# Altium integrated library ON Semi Zener Diodes.IntLib: 1366 symbols (part 2 of 29)
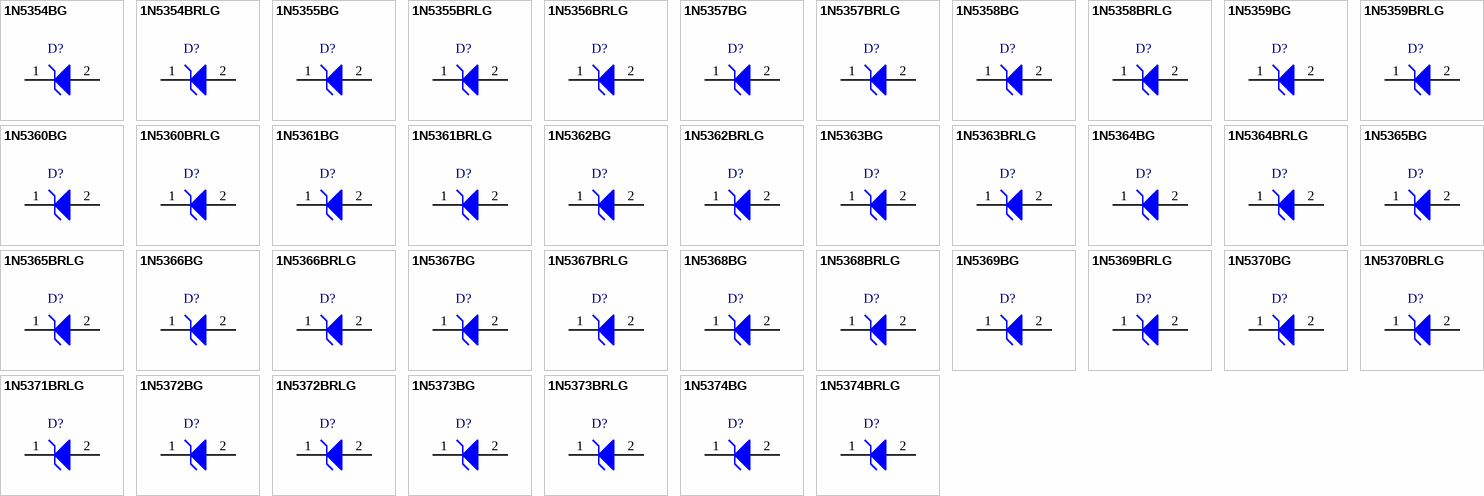
[diagram p45: symbols 1N5354BG to 1N5374BRLG]

## 1N5357BG
designator D?
5 W Zener Voltage Regulator, 2-Pin Surmetic(TM) 40, Pb-Free, Bulk Box; Manufacturer: On Semiconductor; PartNumber: 1N5357BG; P Max (W): 5; VZ Typ (V): 20; DatasheetVersion: Rev. 14; PackageVersion: Rev. O, 09/2005; PackageReference: SURMETIC40-2-017AA-01; PackageDescription: 2-Pin, Axial Lead, Diameter 3.49 mm; Supplier 1: Digi-Key; Supplier Part Number 1: 1N5357BGOS-ND; Supplier 2: Farnell; Supplier Part Number 2: 9558152; Supplier 3: Newark; Supplier Part Number 3: 42K2888; Supplier 4: Mouser; Supplier Part Number 4: 863-1N5357BG; Packing: Bulk Box; RoHS: Pb-Free; Mounting Technology: Through Hole; ComponentLink1Description: Manufacturer URL; ComponentLink1URL: http://www.onsemi.com/; ComponentLink2Description: Datasheet; ComponentLink2URL: http://www.onsemi.cn/pub_link/Collateral/1N5333B-D.PDF; ComponentLink3Description: Package Specification; ComponentLink3URL: http://www.onsemi.cn/pub_link/Collateral/017AA.PDF
footprint ONSC-SURMETIC40-2-017AA-01 (AXIAL, 2-Leads, Diameter 3.49mm)
pins: 1 K, 2 A

## 1N5357BRLG
designator D?
5 W Zener Voltage Regulator, 2-Pin Surmetic(TM) 40, Pb-Free, Tape and Reel; Manufacturer: On Semiconductor; PartNumber: 1N5357BRLG; P Max (W): 5; VZ Typ (V): 20; DatasheetVersion: Rev. 14; PackageVersion: Rev. O, 09/2005; PackageReference: SURMETIC40-2-017AA-01; PackageDescription: 2-Pin, Axial Lead, Diameter 3.49 mm; Supplier 1: Digi-Key; Supplier Part Number 1: 1N5357BRLGOSTR-ND; Supplier 2: Digi-Key; Supplier Part Number 2: 1N5357BRLGOSCT-ND; Supplier 3: Farnell; Supplier Part Number 3: 2317474; Supplier 4: Farnell; Supplier Part Number 4: 2369372; Supplier 5: Newark; Supplier Part Number 5: 10N9630; Supplier 6: Newark; Supplier Part Number 6: 42K2889; Supplier 7: Newark; Supplier Part Number 7: 90W9713; Supplier 8: Mouser; Supplier Part Number 8: 863-1N5357BRLG; Packing: Tape and Reel; RoHS: Pb-Free; Mounting Technology: Through Hole; ComponentLink1Description: Manufacturer URL; ComponentLink1URL: http://www.onsemi.com/; ComponentLink2Description: Datasheet; ComponentLink2URL: http://www.onsemi.cn/pub_link/Collateral/1N5333B-D.PDF; ComponentLink3Description: Package Specification; ComponentLink3URL: http://www.onsemi.cn/pub_link/Collateral/017AA.PDF
footprint ONSC-SURMETIC40-2-017AA-01 (AXIAL, 2-Leads, Diameter 3.49mm)
pins: 1 K, 2 A

## 1N5358BG
designator D?
5 W Zener Voltage Regulator, 2-Pin Surmetic(TM) 40, Pb-Free, Bulk Box; Manufacturer: On Semiconductor; PartNumber: 1N5358BG; P Max (W): 5; VZ Typ (V): 22; DatasheetVersion: Rev. 14; PackageVersion: Rev. O, 09/2005; PackageReference: SURMETIC40-2-017AA-01; PackageDescription: 2-Pin, Axial Lead, Diameter 3.49 mm; Supplier 1: Digi-Key; Supplier Part Number 1: 1N5358BGOS-ND; Supplier 2: Farnell; Supplier Part Number 2: 9558160; Supplier 3: Newark; Supplier Part Number 3: 42K2890; Supplier 4: Mouser; Supplier Part Number 4: 863-1N5358BG; Packing: Bulk Box; RoHS: Pb-Free; Mounting Technology: Through Hole; ComponentLink1Description: Manufacturer URL; ComponentLink1URL: http://www.onsemi.com/; ComponentLink2Description: Datasheet; ComponentLink2URL: http://www.onsemi.cn/pub_link/Collateral/1N5333B-D.PDF; ComponentLink3Description: Package Specification; ComponentLink3URL: http://www.onsemi.cn/pub_link/Collateral/017AA.PDF
footprint ONSC-SURMETIC40-2-017AA-01 (AXIAL, 2-Leads, Diameter 3.49mm)
pins: 1 K, 2 A

## 1N5358BRLG
designator D?
5 W Zener Voltage Regulator, 2-Pin Surmetic(TM) 40, Pb-Free, Tape and Reel; Manufacturer: On Semiconductor; PartNumber: 1N5358BRLG; P Max (W): 5; VZ Typ (V): 22; DatasheetVersion: Rev. 14; PackageVersion: Rev. O, 09/2005; PackageReference: SURMETIC40-2-017AA-01; PackageDescription: 2-Pin, Axial Lead, Diameter 3.49 mm; Supplier 1: Digi-Key; Supplier Part Number 1: 1N5358BRLGOSTR-ND; Supplier 2: Digi-Key; Supplier Part Number 2: 1N5358BRLGOSCT-ND; Supplier 3: Newark; Supplier Part Number 3: 10N9631; Supplier 4: Mouser; Supplier Part Number 4: 863-1N5358BRLG; Packing: Tape and Reel; RoHS: Pb-Free; Mounting Technology: Through Hole; ComponentLink1Description: Manufacturer URL; ComponentLink1URL: http://www.onsemi.com/; ComponentLink2Description: Datasheet; ComponentLink2URL: http://www.onsemi.cn/pub_link/Collateral/1N5333B-D.PDF; ComponentLink3Description: Package Specification; ComponentLink3URL: http://www.onsemi.cn/pub_link/Collateral/017AA.PDF
footprint ONSC-SURMETIC40-2-017AA-01 (AXIAL, 2-Leads, Diameter 3.49mm)
pins: 1 K, 2 A

## 1N5359BG
designator D?
5 W Zener Voltage Regulator, 2-Pin Surmetic(TM) 40, Pb-Free, Bulk Box; Manufacturer: On Semiconductor; PartNumber: 1N5359BG; P Max (W): 5; VZ Typ (V): 24; DatasheetVersion: Rev. 14; PackageVersion: Rev. O, 09/2005; PackageReference: SURMETIC40-2-017AA-01; PackageDescription: 2-Pin, Axial Lead, Diameter 3.49 mm; Supplier 1: Digi-Key; Supplier Part Number 1: 1N5359BGOS-ND; Supplier 2: Farnell; Supplier Part Number 2: 9558179; Supplier 3: Newark; Supplier Part Number 3: 42K2892; Supplier 4: Mouser; Supplier Part Number 4: 863-1N5359BG; Packing: Bulk Box; RoHS: Pb-Free; Mounting Technology: Through Hole; ComponentLink1Description: Manufacturer URL; ComponentLink1URL: http://www.onsemi.com/; ComponentLink2Description: Datasheet; ComponentLink2URL: http://www.onsemi.cn/pub_link/Collateral/1N5333B-D.PDF; ComponentLink3Description: Package Specification; ComponentLink3URL: http://www.onsemi.cn/pub_link/Collateral/017AA.PDF
footprint ONSC-SURMETIC40-2-017AA-01 (AXIAL, 2-Leads, Diameter 3.49mm)
pins: 1 K, 2 A

## 1N5359BRLG
designator D?
5 W Zener Voltage Regulator, 2-Pin Surmetic(TM) 40, Pb-Free, Tape and Reel; Manufacturer: On Semiconductor; PartNumber: 1N5359BRLG; P Max (W): 5; VZ Typ (V): 24; DatasheetVersion: Rev. 14; PackageVersion: Rev. O, 09/2005; PackageReference: SURMETIC40-2-017AA-01; PackageDescription: 2-Pin, Axial Lead, Diameter 3.49 mm; Supplier 1: Digi-Key; Supplier Part Number 1: 1N5359BRLGOSTR-ND; Supplier 2: Digi-Key; Supplier Part Number 2: 1N5359BRLGOSCT-ND; Supplier 3: Farnell; Supplier Part Number 3: 1705006; Supplier 4: Newark; Supplier Part Number 4: 42K2893; Supplier 5: Mouser; Supplier Part Number 5: 863-1N5359BRLG; Packing: Tape and Reel; RoHS: Pb-Free; Mounting Technology: Through Hole; ComponentLink1Description: Manufacturer URL; ComponentLink1URL: http://www.onsemi.com/; ComponentLink2Description: Datasheet; ComponentLink2URL: http://www.onsemi.cn/pub_link/Collateral/1N5333B-D.PDF; ComponentLink3Description: Package Specification; ComponentLink3URL: http://www.onsemi.cn/pub_link/Collateral/017AA.PDF
footprint ONSC-SURMETIC40-2-017AA-01 (AXIAL, 2-Leads, Diameter 3.49mm)
pins: 1 K, 2 A

## 1N5360BG
designator D?
5 W Zener Voltage Regulator, 2-Pin Surmetic(TM) 40, Pb-Free, Bulk Box; Manufacturer: On Semiconductor; PartNumber: 1N5360BG; P Max (W): 5; VZ Typ (V): 25; DatasheetVersion: Rev. 14; PackageVersion: Rev. O, 09/2005; PackageReference: SURMETIC40-2-017AA-01; PackageDescription: 2-Pin, Axial Lead, Diameter 3.49 mm; Supplier 1: Digi-Key; Supplier Part Number 1: 1N5360BGOS-ND; Supplier 2: Farnell; Supplier Part Number 2: 9558187; Supplier 3: Newark; Supplier Part Number 3: 42K2894; Supplier 4: Mouser; Supplier Part Number 4: 863-1N5360BG; Packing: Bulk Box; RoHS: Pb-Free; Mounting Technology: Through Hole; ComponentLink1Description: Manufacturer URL; ComponentLink1URL: http://www.onsemi.com/; ComponentLink2Description: Datasheet; ComponentLink2URL: http://www.onsemi.cn/pub_link/Collateral/1N5333B-D.PDF; ComponentLink3Description: Package Specification; ComponentLink3URL: http://www.onsemi.cn/pub_link/Collateral/017AA.PDF
footprint ONSC-SURMETIC40-2-017AA-01 (AXIAL, 2-Leads, Diameter 3.49mm)
pins: 1 K, 2 A

## 1N5360BRLG
designator D?
5 W Zener Voltage Regulator, 2-Pin Surmetic(TM) 40, Pb-Free, Tape and Reel; Manufacturer: On Semiconductor; PartNumber: 1N5360BRLG; P Max (W): 5; VZ Typ (V): 25; DatasheetVersion: Rev. 14; PackageVersion: Rev. O, 09/2005; PackageReference: SURMETIC40-2-017AA-01; PackageDescription: 2-Pin, Axial Lead, Diameter 3.49 mm; Supplier 1: Digi-Key; Supplier Part Number 1: 1N5360BRLGOSTR-ND; Supplier 2: Digi-Key; Supplier Part Number 2: 1N5360BRLGOSCT-ND; Supplier 3: Newark; Supplier Part Number 3: 10N9632; Supplier 4: Mouser; Supplier Part Number 4: 863-1N5360BRLG; Packing: Tape and Reel; RoHS: Pb-Free; Mounting Technology: Through Hole; ComponentLink1Description: Manufacturer URL; ComponentLink1URL: http://www.onsemi.com/; ComponentLink2Description: Datasheet; ComponentLink2URL: http://www.onsemi.cn/pub_link/Collateral/1N5333B-D.PDF; ComponentLink3Description: Package Specification; ComponentLink3URL: http://www.onsemi.cn/pub_link/Collateral/017AA.PDF
footprint ONSC-SURMETIC40-2-017AA-01 (AXIAL, 2-Leads, Diameter 3.49mm)
pins: 1 K, 2 A

## 1N5361BG
designator D?
5 W Zener Voltage Regulator, 2-Pin Surmetic(TM) 40, Pb-Free, Bulk Box; Manufacturer: On Semiconductor; PartNumber: 1N5361BG; P Max (W): 5; VZ Typ (V): 27; DatasheetVersion: Rev. 14; PackageVersion: Rev. O, 09/2005; PackageReference: SURMETIC40-2-017AA-01; PackageDescription: 2-Pin, Axial Lead, Diameter 3.49 mm; Supplier 1: Digi-Key; Supplier Part Number 1: 1N5361BGOS-ND; Supplier 2: Farnell; Supplier Part Number 2: 9558195; Supplier 3: Newark; Supplier Part Number 3: 42K2896; Supplier 4: Mouser; Supplier Part Number 4: 863-1N5361BG; Packing: Bulk Box; RoHS: Pb-Free; Mounting Technology: Through Hole; ComponentLink1Description: Manufacturer URL; ComponentLink1URL: http://www.onsemi.com/; ComponentLink2Description: Datasheet; ComponentLink2URL: http://www.onsemi.cn/pub_link/Collateral/1N5333B-D.PDF; ComponentLink3Description: Package Specification; ComponentLink3URL: http://www.onsemi.cn/pub_link/Collateral/017AA.PDF
footprint ONSC-SURMETIC40-2-017AA-01 (AXIAL, 2-Leads, Diameter 3.49mm)
pins: 1 K, 2 A

## 1N5361BRLG
designator D?
5 W Zener Voltage Regulator, 2-Pin Surmetic(TM) 40, Pb-Free, Tape and Reel; Manufacturer: On Semiconductor; PartNumber: 1N5361BRLG; P Max (W): 5; VZ Typ (V): 27; DatasheetVersion: Rev. 14; PackageVersion: Rev. O, 09/2005; PackageReference: SURMETIC40-2-017AA-01; PackageDescription: 2-Pin, Axial Lead, Diameter 3.49 mm; Supplier 1: Digi-Key; Supplier Part Number 1: 1N5361BRLGOSTR-ND; Supplier 2: Digi-Key; Supplier Part Number 2: 1N5361BRLGOSCT-ND; Supplier 3: Newark; Supplier Part Number 3: 10N9633; Supplier 4: Newark; Supplier Part Number 4: 42K2897; Supplier 5: Mouser; Supplier Part Number 5: 863-1N5361BRLG; Packing: Tape and Reel; RoHS: Pb-Free; Mounting Technology: Through Hole; ComponentLink1Description: Manufacturer URL; ComponentLink1URL: http://www.onsemi.com/; ComponentLink2Description: Datasheet; ComponentLink2URL: http://www.onsemi.cn/pub_link/Collateral/1N5333B-D.PDF; ComponentLink3Description: Package Specification; ComponentLink3URL: http://www.onsemi.cn/pub_link/Collateral/017AA.PDF
footprint ONSC-SURMETIC40-2-017AA-01 (AXIAL, 2-Leads, Diameter 3.49mm)
pins: 1 K, 2 A

## 1N5362BG
designator D?
5 W Zener Voltage Regulator, 2-Pin Surmetic(TM) 40, Pb-Free, Bulk Box; Manufacturer: On Semiconductor; PartNumber: 1N5362BG; P Max (W): 5; VZ Typ (V): 28; DatasheetVersion: Rev. 14; PackageVersion: Rev. O, 09/2005; PackageReference: SURMETIC40-2-017AA-01; PackageDescription: 2-Pin, Axial Lead, Diameter 3.49 mm; Supplier 1: Digi-Key; Supplier Part Number 1: 1N5362BGOS-ND; Supplier 2: Farnell; Supplier Part Number 2: 2101209; Supplier 3: Newark; Supplier Part Number 3: 42K2898; Supplier 4: Mouser; Supplier Part Number 4: 863-1N5362BG; Packing: Bulk Box; RoHS: Pb-Free; Mounting Technology: Through Hole; ComponentLink1Description: Manufacturer URL; ComponentLink1URL: http://www.onsemi.com/; ComponentLink2Description: Datasheet; ComponentLink2URL: http://www.onsemi.cn/pub_link/Collateral/1N5333B-D.PDF; ComponentLink3Description: Package Specification; ComponentLink3URL: http://www.onsemi.cn/pub_link/Collateral/017AA.PDF
footprint ONSC-SURMETIC40-2-017AA-01 (AXIAL, 2-Leads, Diameter 3.49mm)
pins: 1 K, 2 A

## 1N5362BRLG
designator D?
5 W Zener Voltage Regulator, 2-Pin Surmetic(TM) 40, Pb-Free, Tape and Reel; Manufacturer: On Semiconductor; PartNumber: 1N5362BRLG; P Max (W): 5; VZ Typ (V): 28; DatasheetVersion: Rev. 14; PackageVersion: Rev. O, 09/2005; PackageReference: SURMETIC40-2-017AA-01; PackageDescription: 2-Pin, Axial Lead, Diameter 3.49 mm; Supplier 1: Digi-Key; Supplier Part Number 1: 1N5362BRLGOSTR-ND; Supplier 2: Digi-Key; Supplier Part Number 2: 1N5362BRLGOSCT-ND; Supplier 3: Farnell; Supplier Part Number 3: 2369373; Supplier 4: Newark; Supplier Part Number 4: 10N9634; Supplier 5: Mouser; Supplier Part Number 5: 863-1N5362BRLG; Packing: Tape and Reel; RoHS: Pb-Free; Mounting Technology: Through Hole; ComponentLink1Description: Manufacturer URL; ComponentLink1URL: http://www.onsemi.com/; ComponentLink2Description: Datasheet; ComponentLink2URL: http://www.onsemi.cn/pub_link/Collateral/1N5333B-D.PDF; ComponentLink3Description: Package Specification; ComponentLink3URL: http://www.onsemi.cn/pub_link/Collateral/017AA.PDF
footprint ONSC-SURMETIC40-2-017AA-01 (AXIAL, 2-Leads, Diameter 3.49mm)
pins: 1 K, 2 A

## 1N5363BG
designator D?
5 W Zener Voltage Regulator, 2-Pin Surmetic(TM) 40, Pb-Free, Bulk Box; Manufacturer: On Semiconductor; PartNumber: 1N5363BG; P Max (W): 5; VZ Typ (V): 30; DatasheetVersion: Rev. 14; PackageVersion: Rev. O, 09/2005; PackageReference: SURMETIC40-2-017AA-01; PackageDescription: 2-Pin, Axial Lead, Diameter 3.49 mm; Supplier 1: Digi-Key; Supplier Part Number 1: 1N5363BGOS-ND; Supplier 2: Farnell; Supplier Part Number 2: 9558209; Supplier 3: Newark; Supplier Part Number 3: 42K2900; Supplier 4: Mouser; Supplier Part Number 4: 863-1N5363BG; Packing: Bulk Box; RoHS: Pb-Free; Mounting Technology: Through Hole; ComponentLink1Description: Manufacturer URL; ComponentLink1URL: http://www.onsemi.com/; ComponentLink2Description: Datasheet; ComponentLink2URL: http://www.onsemi.cn/pub_link/Collateral/1N5333B-D.PDF; ComponentLink3Description: Package Specification; ComponentLink3URL: http://www.onsemi.cn/pub_link/Collateral/017AA.PDF
footprint ONSC-SURMETIC40-2-017AA-01 (AXIAL, 2-Leads, Diameter 3.49mm)
pins: 1 K, 2 A

## 1N5363BRLG
designator D?
5 W Zener Voltage Regulator, 2-Pin Surmetic(TM) 40, Pb-Free, Tape and Reel; Manufacturer: On Semiconductor; PartNumber: 1N5363BRLG; P Max (W): 5; VZ Typ (V): 30; DatasheetVersion: Rev. 14; PackageVersion: Rev. O, 09/2005; PackageReference: SURMETIC40-2-017AA-01; PackageDescription: 2-Pin, Axial Lead, Diameter 3.49 mm; Supplier 1: Digi-Key; Supplier Part Number 1: 1N5363BRLGOSTR-ND; Supplier 2: Digi-Key; Supplier Part Number 2: 1N5363BRLGOSCT-ND; Supplier 3: Newark; Supplier Part Number 3: 42K2901; Supplier 4: Newark; Supplier Part Number 4: 10N9635; Supplier 5: Mouser; Supplier Part Number 5: 863-1N5363BRLG; Packing: Tape and Reel; RoHS: Pb-Free; Mounting Technology: Through Hole; ComponentLink1Description: Manufacturer URL; ComponentLink1URL: http://www.onsemi.com/; ComponentLink2Description: Datasheet; ComponentLink2URL: http://www.onsemi.cn/pub_link/Collateral/1N5333B-D.PDF; ComponentLink3Description: Package Specification; ComponentLink3URL: http://www.onsemi.cn/pub_link/Collateral/017AA.PDF
footprint ONSC-SURMETIC40-2-017AA-01 (AXIAL, 2-Leads, Diameter 3.49mm)
pins: 1 K, 2 A

## 1N5364BG
designator D?
5 W Zener Voltage Regulator, 2-Pin Surmetic(TM) 40, Pb-Free, Bulk Box; Manufacturer: On Semiconductor; PartNumber: 1N5364BG; P Max (W): 5; VZ Typ (V): 33; DatasheetVersion: Rev. 14; PackageVersion: Rev. O, 09/2005; PackageReference: SURMETIC40-2-017AA-01; PackageDescription: 2-Pin, Axial Lead, Diameter 3.49 mm; Supplier 1: Digi-Key; Supplier Part Number 1: 1N5364BGOS-ND; Supplier 2: Farnell; Supplier Part Number 2: 9558217; Supplier 3: Newark; Supplier Part Number 3: 42K2902; Supplier 4: Mouser; Supplier Part Number 4: 863-1N5364BG; Packing: Bulk Box; RoHS: Pb-Free; Mounting Technology: Through Hole; ComponentLink1Description: Manufacturer URL; ComponentLink1URL: http://www.onsemi.com/; ComponentLink2Description: Datasheet; ComponentLink2URL: http://www.onsemi.cn/pub_link/Collateral/1N5333B-D.PDF; ComponentLink3Description: Package Specification; ComponentLink3URL: http://www.onsemi.cn/pub_link/Collateral/017AA.PDF
footprint ONSC-SURMETIC40-2-017AA-01 (AXIAL, 2-Leads, Diameter 3.49mm)
pins: 1 K, 2 A

## 1N5364BRLG
designator D?
5 W Zener Voltage Regulator, 2-Pin Surmetic(TM) 40, Pb-Free, Tape and Reel; Manufacturer: On Semiconductor; PartNumber: 1N5364BRLG; P Max (W): 5; VZ Typ (V): 33; DatasheetVersion: Rev. 14; PackageVersion: Rev. O, 09/2005; PackageReference: SURMETIC40-2-017AA-01; PackageDescription: 2-Pin, Axial Lead, Diameter 3.49 mm; Supplier 1: Digi-Key; Supplier Part Number 1: 1N5364BRLGOSTR-ND; Supplier 2: Digi-Key; Supplier Part Number 2: 1N5364BRLGOSCT-ND; Supplier 3: Farnell; Supplier Part Number 3: 2317472; Supplier 4: Newark; Supplier Part Number 4: 06M5747; Supplier 5: Mouser; Supplier Part Number 5: 863-1N5364BRLG; Packing: Tape and Reel; RoHS: Pb-Free; Mounting Technology: Through Hole; ComponentLink1Description: Manufacturer URL; ComponentLink1URL: http://www.onsemi.com/; ComponentLink2Description: Datasheet; ComponentLink2URL: http://www.onsemi.cn/pub_link/Collateral/1N5333B-D.PDF; ComponentLink3Description: Package Specification; ComponentLink3URL: http://www.onsemi.cn/pub_link/Collateral/017AA.PDF
footprint ONSC-SURMETIC40-2-017AA-01 (AXIAL, 2-Leads, Diameter 3.49mm)
pins: 1 K, 2 A

## 1N5365BG
designator D?
5 W Zener Voltage Regulator, 2-Pin Surmetic(TM) 40, Pb-Free, Bulk Box; Manufacturer: On Semiconductor; PartNumber: 1N5365BG; P Max (W): 5; VZ Typ (V): 36; DatasheetVersion: Rev. 14; PackageVersion: Rev. O, 09/2005; PackageReference: SURMETIC40-2-017AA-01; PackageDescription: 2-Pin, Axial Lead, Diameter 3.49 mm; Supplier 1: Digi-Key; Supplier Part Number 1: 1N5365BGOS-ND; Supplier 2: Farnell; Supplier Part Number 2: 9558225; Supplier 3: Newark; Supplier Part Number 3: 42K2904; Supplier 4: Mouser; Supplier Part Number 4: 863-1N5365BG; Packing: Bulk Box; RoHS: Pb-Free; Mounting Technology: Through Hole; ComponentLink1Description: Manufacturer URL; ComponentLink1URL: http://www.onsemi.com/; ComponentLink2Description: Datasheet; ComponentLink2URL: http://www.onsemi.cn/pub_link/Collateral/1N5333B-D.PDF; ComponentLink3Description: Package Specification; ComponentLink3URL: http://www.onsemi.cn/pub_link/Collateral/017AA.PDF
footprint ONSC-SURMETIC40-2-017AA-01 (AXIAL, 2-Leads, Diameter 3.49mm)
pins: 1 K, 2 A

## 1N5365BRLG
designator D?
5 W Zener Voltage Regulator, 2-Pin Surmetic(TM) 40, Pb-Free, Tape and Reel; Manufacturer: On Semiconductor; PartNumber: 1N5365BRLG; P Max (W): 5; VZ Typ (V): 36; DatasheetVersion: Rev. 14; PackageVersion: Rev. O, 09/2005; PackageReference: SURMETIC40-2-017AA-01; PackageDescription: 2-Pin, Axial Lead, Diameter 3.49 mm; Supplier 1: Digi-Key; Supplier Part Number 1: 1N5365BRLGOSTR-ND; Supplier 2: Digi-Key; Supplier Part Number 2: 1N5365BRLGOSCT-ND; Supplier 3: Farnell; Supplier Part Number 3: 1705678; Supplier 4: Farnell; Supplier Part Number 4: 1899550; Supplier 5: Newark; Supplier Part Number 5: 42K2905; Supplier 6: Newark; Supplier Part Number 6: 10N9636; Supplier 7: Mouser; Supplier Part Number 7: 863-1N5365BRLG; Packing: Tape and Reel; RoHS: Pb-Free; Mounting Technology: Through Hole; ComponentLink1Description: Manufacturer URL; ComponentLink1URL: http://www.onsemi.com/; ComponentLink2Description: Datasheet; ComponentLink2URL: http://www.onsemi.cn/pub_link/Collateral/1N5333B-D.PDF; ComponentLink3Description: Package Specification; ComponentLink3URL: http://www.onsemi.cn/pub_link/Collateral/017AA.PDF
footprint ONSC-SURMETIC40-2-017AA-01 (AXIAL, 2-Leads, Diameter 3.49mm)
pins: 1 K, 2 A

## 1N5366BG
designator D?
5 W Zener Voltage Regulator, 2-Pin Surmetic(TM) 40, Pb-Free, Bulk Box; Manufacturer: On Semiconductor; PartNumber: 1N5366BG; P Max (W): 5; VZ Typ (V): 39; DatasheetVersion: Rev. 14; PackageVersion: Rev. O, 09/2005; PackageReference: SURMETIC40-2-017AA-01; PackageDescription: 2-Pin, Axial Lead, Diameter 3.49 mm; Supplier 1: Digi-Key; Supplier Part Number 1: 1N5366BGOS-ND; Supplier 2: Farnell; Supplier Part Number 2: 9558233; Supplier 3: Newark; Supplier Part Number 3: 42K2906; Supplier 4: Newark; Supplier Part Number 4: 39K0623; Supplier 5: Mouser; Supplier Part Number 5: 863-1N5366BG; Packing: Bulk Box; RoHS: Pb-Free; Mounting Technology: Through Hole; ComponentLink1Description: Manufacturer URL; ComponentLink1URL: http://www.onsemi.com/; ComponentLink2Description: Datasheet; ComponentLink2URL: http://www.onsemi.cn/pub_link/Collateral/1N5333B-D.PDF; ComponentLink3Description: Package Specification; ComponentLink3URL: http://www.onsemi.cn/pub_link/Collateral/017AA.PDF
footprint ONSC-SURMETIC40-2-017AA-01 (AXIAL, 2-Leads, Diameter 3.49mm)
pins: 1 K, 2 A

## 1N5366BRLG
designator D?
5 W Zener Voltage Regulator, 2-Pin Surmetic(TM) 40, Pb-Free, Tape and Reel; Manufacturer: On Semiconductor; PartNumber: 1N5366BRLG; P Max (W): 5; VZ Typ (V): 39; DatasheetVersion: Rev. 14; PackageVersion: Rev. O, 09/2005; PackageReference: SURMETIC40-2-017AA-01; PackageDescription: 2-Pin, Axial Lead, Diameter 3.49 mm; Supplier 1: Digi-Key; Supplier Part Number 1: 1N5366BRLGOSTR-ND; Supplier 2: Digi-Key; Supplier Part Number 2: 1N5366BRLGOSCT-ND; Supplier 3: Newark; Supplier Part Number 3: 42K2907; Supplier 4: Mouser; Supplier Part Number 4: 863-1N5366BRLG; Packing: Tape and Reel; RoHS: Pb-Free; Mounting Technology: Through Hole; ComponentLink1Description: Manufacturer URL; ComponentLink1URL: http://www.onsemi.com/; ComponentLink2Description: Datasheet; ComponentLink2URL: http://www.onsemi.cn/pub_link/Collateral/1N5333B-D.PDF; ComponentLink3Description: Package Specification; ComponentLink3URL: http://www.onsemi.cn/pub_link/Collateral/017AA.PDF
footprint ONSC-SURMETIC40-2-017AA-01 (AXIAL, 2-Leads, Diameter 3.49mm)
pins: 1 K, 2 A

## 1N5367BG
designator D?
5 W Zener Voltage Regulator, 2-Pin Surmetic(TM) 40, Pb-Free, Bulk Box; Manufacturer: On Semiconductor; PartNumber: 1N5367BG; P Max (W): 5; VZ Typ (V): 43; DatasheetVersion: Rev. 14; PackageVersion: Rev. O, 09/2005; PackageReference: SURMETIC40-2-017AA-01; PackageDescription: 2-Pin, Axial Lead, Diameter 3.49 mm; Supplier 1: Digi-Key; Supplier Part Number 1: 1N5367BGOS-ND; Supplier 2: Farnell; Supplier Part Number 2: 9558241; Supplier 3: Newark; Supplier Part Number 3: 42K2908; Supplier 4: Mouser; Supplier Part Number 4: 863-1N5367BG; Packing: Bulk Box; RoHS: Pb-Free; Mounting Technology: Through Hole; ComponentLink1Description: Manufacturer URL; ComponentLink1URL: http://www.onsemi.com/; ComponentLink2Description: Datasheet; ComponentLink2URL: http://www.onsemi.cn/pub_link/Collateral/1N5333B-D.PDF; ComponentLink3Description: Package Specification; ComponentLink3URL: http://www.onsemi.cn/pub_link/Collateral/017AA.PDF
footprint ONSC-SURMETIC40-2-017AA-01 (AXIAL, 2-Leads, Diameter 3.49mm)
pins: 1 K, 2 A

## 1N5367BRLG
designator D?
5 W Zener Voltage Regulator, 2-Pin Surmetic(TM) 40, Pb-Free, Tape and Reel; Manufacturer: On Semiconductor; PartNumber: 1N5367BRLG; P Max (W): 5; VZ Typ (V): 43; DatasheetVersion: Rev. 14; PackageVersion: Rev. O, 09/2005; PackageReference: SURMETIC40-2-017AA-01; PackageDescription: 2-Pin, Axial Lead, Diameter 3.49 mm; Supplier 1: Digi-Key; Supplier Part Number 1: 1N5367BRLGOSTR-ND; Supplier 2: Digi-Key; Supplier Part Number 2: 1N5367BRLGOSCT-ND; Supplier 3: Newark; Supplier Part Number 3: 42K2909; Supplier 4: Mouser; Supplier Part Number 4: 863-1N5367BRLG; Packing: Tape and Reel; RoHS: Pb-Free; Mounting Technology: Through Hole; ComponentLink1Description: Manufacturer URL; ComponentLink1URL: http://www.onsemi.com/; ComponentLink2Description: Datasheet; ComponentLink2URL: http://www.onsemi.cn/pub_link/Collateral/1N5333B-D.PDF; ComponentLink3Description: Package Specification; ComponentLink3URL: http://www.onsemi.cn/pub_link/Collateral/017AA.PDF
footprint ONSC-SURMETIC40-2-017AA-01 (AXIAL, 2-Leads, Diameter 3.49mm)
pins: 1 K, 2 A

## 1N5368BG
designator D?
5 W Zener Voltage Regulator, 2-Pin Surmetic(TM) 40, Pb-Free, Bulk Box; Manufacturer: On Semiconductor; PartNumber: 1N5368BG; P Max (W): 5; VZ Typ (V): 47; DatasheetVersion: Rev. 14; PackageVersion: Rev. O, 09/2005; PackageReference: SURMETIC40-2-017AA-01; PackageDescription: 2-Pin, Axial Lead, Diameter 3.49 mm; Supplier 1: Digi-Key; Supplier Part Number 1: 1N5368BGOS-ND; Supplier 2: Farnell; Supplier Part Number 2: 9558250; Supplier 3: Newark; Supplier Part Number 3: 42K2910; Supplier 4: Mouser; Supplier Part Number 4: 863-1N5368BG; Packing: Bulk Box; RoHS: Pb-Free; Mounting Technology: Through Hole; ComponentLink1Description: Manufacturer URL; ComponentLink1URL: http://www.onsemi.com/; ComponentLink2Description: Datasheet; ComponentLink2URL: http://www.onsemi.cn/pub_link/Collateral/1N5333B-D.PDF; ComponentLink3Description: Package Specification; ComponentLink3URL: http://www.onsemi.cn/pub_link/Collateral/017AA.PDF
footprint ONSC-SURMETIC40-2-017AA-01 (AXIAL, 2-Leads, Diameter 3.49mm)
pins: 1 K, 2 A

## 1N5368BRLG
designator D?
5 W Zener Voltage Regulator, 2-Pin Surmetic(TM) 40, Pb-Free, Tape and Reel; Manufacturer: On Semiconductor; PartNumber: 1N5368BRLG; P Max (W): 5; VZ Typ (V): 47; DatasheetVersion: Rev. 14; PackageVersion: Rev. O, 09/2005; PackageReference: SURMETIC40-2-017AA-01; PackageDescription: 2-Pin, Axial Lead, Diameter 3.49 mm; Supplier 1: Digi-Key; Supplier Part Number 1: 1N5368BRLGOSTR-ND; Supplier 2: Digi-Key; Supplier Part Number 2: 1N5368BRLGOSCT-ND; Supplier 3: Newark; Supplier Part Number 3: 10N9637; Supplier 4: Mouser; Supplier Part Number 4: 863-1N5368BRLG; Packing: Tape and Reel; RoHS: Pb-Free; Mounting Technology: Through Hole; ComponentLink1Description: Manufacturer URL; ComponentLink1URL: http://www.onsemi.com/; ComponentLink2Description: Datasheet; ComponentLink2URL: http://www.onsemi.cn/pub_link/Collateral/1N5333B-D.PDF; ComponentLink3Description: Package Specification; ComponentLink3URL: http://www.onsemi.cn/pub_link/Collateral/017AA.PDF
footprint ONSC-SURMETIC40-2-017AA-01 (AXIAL, 2-Leads, Diameter 3.49mm)
pins: 1 K, 2 A

## 1N5369BG
designator D?
5 W Zener Voltage Regulator, 2-Pin Surmetic(TM) 40, Pb-Free, Bulk Box; Manufacturer: On Semiconductor; PartNumber: 1N5369BG; P Max (W): 5; VZ Typ (V): 51; DatasheetVersion: Rev. 14; PackageVersion: Rev. O, 09/2005; PackageReference: SURMETIC40-2-017AA-01; PackageDescription: 2-Pin, Axial Lead, Diameter 3.49 mm; Supplier 1: Digi-Key; Supplier Part Number 1: 1N5369BGOS-ND; Supplier 2: Farnell; Supplier Part Number 2: 9558268; Supplier 3: Newark; Supplier Part Number 3: 61K2024; Supplier 4: Mouser; Supplier Part Number 4: 863-1N5369BG; Packing: Bulk Box; RoHS: Pb-Free; Mounting Technology: Through Hole; ComponentLink1Description: Manufacturer URL; ComponentLink1URL: http://www.onsemi.com/; ComponentLink2Description: Datasheet; ComponentLink2URL: http://www.onsemi.cn/pub_link/Collateral/1N5333B-D.PDF; ComponentLink3Description: Package Specification; ComponentLink3URL: http://www.onsemi.cn/pub_link/Collateral/017AA.PDF
footprint ONSC-SURMETIC40-2-017AA-01 (AXIAL, 2-Leads, Diameter 3.49mm)
pins: 1 K, 2 A

## 1N5369BRLG
designator D?
5 W Zener Voltage Regulator, 2-Pin Surmetic(TM) 40, Pb-Free, Tape and Reel; Manufacturer: On Semiconductor; PartNumber: 1N5369BRLG; P Max (W): 5; VZ Typ (V): 51; DatasheetVersion: Rev. 14; PackageVersion: Rev. O, 09/2005; PackageReference: SURMETIC40-2-017AA-01; PackageDescription: 2-Pin, Axial Lead, Diameter 3.49 mm; Supplier 1: Digi-Key; Supplier Part Number 1: 1N5369BRLGOSTR-ND; Supplier 2: Digi-Key; Supplier Part Number 2: 1N5369BRLGOSCT-ND; Supplier 3: Newark; Supplier Part Number 3: 42K2912; Supplier 4: Newark; Supplier Part Number 4: 10N9638; Supplier 5: Mouser; Supplier Part Number 5: 863-1N5369BRLG; Packing: Tape and Reel; RoHS: Pb-Free; Mounting Technology: Through Hole; ComponentLink1Description: Manufacturer URL; ComponentLink1URL: http://www.onsemi.com/; ComponentLink2Description: Datasheet; ComponentLink2URL: http://www.onsemi.cn/pub_link/Collateral/1N5333B-D.PDF; ComponentLink3Description: Package Specification; ComponentLink3URL: http://www.onsemi.cn/pub_link/Collateral/017AA.PDF
footprint ONSC-SURMETIC40-2-017AA-01 (AXIAL, 2-Leads, Diameter 3.49mm)
pins: 1 K, 2 A

## 1N5370BG
designator D?
5 W Zener Voltage Regulator, 2-Pin Surmetic(TM) 40, Pb-Free, Bulk Box; Manufacturer: On Semiconductor; PartNumber: 1N5370BG; P Max (W): 5; VZ Typ (V): 56; DatasheetVersion: Rev. 14; PackageVersion: Rev. O, 09/2005; PackageReference: SURMETIC40-2-017AA-01; PackageDescription: 2-Pin, Axial Lead, Diameter 3.49 mm; Supplier 1: Digi-Key; Supplier Part Number 1: 1N5370BGOS-ND; Supplier 2: Farnell; Supplier Part Number 2: 9558276; Supplier 3: Newark; Supplier Part Number 3: 61K2025; Supplier 4: Mouser; Supplier Part Number 4: 863-1N5370BG; Packing: Bulk Box; RoHS: Pb-Free; Mounting Technology: Through Hole; ComponentLink1Description: Manufacturer URL; ComponentLink1URL: http://www.onsemi.com/; ComponentLink2Description: Datasheet; ComponentLink2URL: http://www.onsemi.cn/pub_link/Collateral/1N5333B-D.PDF; ComponentLink3Description: Package Specification; ComponentLink3URL: http://www.onsemi.cn/pub_link/Collateral/017AA.PDF
footprint ONSC-SURMETIC40-2-017AA-01 (AXIAL, 2-Leads, Diameter 3.49mm)
pins: 1 K, 2 A

## 1N5370BRLG
designator D?
5 W Zener Voltage Regulator, 2-Pin Surmetic(TM) 40, Pb-Free, Tape and Reel; Manufacturer: On Semiconductor; PartNumber: 1N5370BRLG; P Max (W): 5; VZ Typ (V): 56; DatasheetVersion: Rev. 14; PackageVersion: Rev. O, 09/2005; PackageReference: SURMETIC40-2-017AA-01; PackageDescription: 2-Pin, Axial Lead, Diameter 3.49 mm; Supplier 1: Digi-Key; Supplier Part Number 1: 1N5370BRLG-ND; Supplier 2: Mouser; Supplier Part Number 2: 863-1N5370BRLG; Packing: Tape and Reel; RoHS: Pb-Free; Mounting Technology: Through Hole; ComponentLink1Description: Manufacturer URL; ComponentLink1URL: http://www.onsemi.com/; ComponentLink2Description: Datasheet; ComponentLink2URL: http://www.onsemi.cn/pub_link/Collateral/1N5333B-D.PDF; ComponentLink3Description: Package Specification; ComponentLink3URL: http://www.onsemi.cn/pub_link/Collateral/017AA.PDF
footprint ONSC-SURMETIC40-2-017AA-01 (AXIAL, 2-Leads, Diameter 3.49mm)
pins: 1 K, 2 A

## 1N5371BRLG
designator D?
5 W Zener Voltage Regulator, 2-Pin Surmetic(TM) 40, Pb-Free, Tape and Reel; Manufacturer: On Semiconductor; PartNumber: 1N5371BRLG; P Max (W): 5; VZ Typ (V): 60; DatasheetVersion: Rev. 14; PackageVersion: Rev. O, 09/2005; PackageReference: SURMETIC40-2-017AA-01; PackageDescription: 2-Pin, Axial Lead, Diameter 3.49 mm; Supplier 1: Digi-Key; Supplier Part Number 1: 1N5371BRLGOSTR-ND; Supplier 2: Digi-Key; Supplier Part Number 2: 1N5371BRLGOSCT-ND; Supplier 3: Farnell; Supplier Part Number 3: 2101831; Supplier 4: Newark; Supplier Part Number 4: 09R9760; Supplier 5: Mouser; Supplier Part Number 5: 863-1N5371BRLG; Packing: Tape and Reel; RoHS: Pb-Free; Mounting Technology: Through Hole; ComponentLink1Description: Manufacturer URL; ComponentLink1URL: http://www.onsemi.com/; ComponentLink2Description: Datasheet; ComponentLink2URL: http://www.onsemi.cn/pub_link/Collateral/1N5333B-D.PDF; ComponentLink3Description: Package Specification; ComponentLink3URL: http://www.onsemi.cn/pub_link/Collateral/017AA.PDF
footprint ONSC-SURMETIC40-2-017AA-01 (AXIAL, 2-Leads, Diameter 3.49mm)
pins: 1 K, 2 A

## 1N5372BG
designator D?
5 W Zener Voltage Regulator, 2-Pin Surmetic(TM) 40, Pb-Free, Bulk Box; Manufacturer: On Semiconductor; PartNumber: 1N5372BG; P Max (W): 5; VZ Typ (V): 62; DatasheetVersion: Rev. 14; PackageVersion: Rev. O, 09/2005; PackageReference: SURMETIC40-2-017AA-01; PackageDescription: 2-Pin, Axial Lead, Diameter 3.49 mm; Supplier 1: Digi-Key; Supplier Part Number 1: 1N5372BGOS-ND; Supplier 2: Farnell; Supplier Part Number 2: 9558292; Supplier 3: Newark; Supplier Part Number 3: 61K2027; Supplier 4: Mouser; Supplier Part Number 4: 863-1N5372BG; Packing: Bulk Box; RoHS: Pb-Free; Mounting Technology: Through Hole; ComponentLink1Description: Manufacturer URL; ComponentLink1URL: http://www.onsemi.com/; ComponentLink2Description: Datasheet; ComponentLink2URL: http://www.onsemi.cn/pub_link/Collateral/1N5333B-D.PDF; ComponentLink3Description: Package Specification; ComponentLink3URL: http://www.onsemi.cn/pub_link/Collateral/017AA.PDF
footprint ONSC-SURMETIC40-2-017AA-01 (AXIAL, 2-Leads, Diameter 3.49mm)
pins: 1 K, 2 A

## 1N5372BRLG
designator D?
5 W Zener Voltage Regulator, 2-Pin Surmetic(TM) 40, Pb-Free, Tape and Reel; Manufacturer: On Semiconductor; PartNumber: 1N5372BRLG; P Max (W): 5; VZ Typ (V): 62; DatasheetVersion: Rev. 14; PackageVersion: Rev. O, 09/2005; PackageReference: SURMETIC40-2-017AA-01; PackageDescription: 2-Pin, Axial Lead, Diameter 3.49 mm; Supplier 1: Digi-Key; Supplier Part Number 1: 1N5372BRLG-ND; Supplier 2: Mouser; Supplier Part Number 2: 863-1N5372BRLG; Packing: Tape and Reel; RoHS: Pb-Free; Mounting Technology: Through Hole; ComponentLink1Description: Manufacturer URL; ComponentLink1URL: http://www.onsemi.com/; ComponentLink2Description: Datasheet; ComponentLink2URL: http://www.onsemi.cn/pub_link/Collateral/1N5333B-D.PDF; ComponentLink3Description: Package Specification; ComponentLink3URL: http://www.onsemi.cn/pub_link/Collateral/017AA.PDF
footprint ONSC-SURMETIC40-2-017AA-01 (AXIAL, 2-Leads, Diameter 3.49mm)
pins: 1 K, 2 A

## 1N5373BG
designator D?
5 W Zener Voltage Regulator, 2-Pin Surmetic(TM) 40, Pb-Free, Bulk Box; Manufacturer: On Semiconductor; PartNumber: 1N5373BG; P Max (W): 5; VZ Typ (V): 68; DatasheetVersion: Rev. 14; PackageVersion: Rev. O, 09/2005; PackageReference: SURMETIC40-2-017AA-01; PackageDescription: 2-Pin, Axial Lead, Diameter 3.49 mm; Supplier 1: Digi-Key; Supplier Part Number 1: 1N5373BGOS-ND; Supplier 2: Farnell; Supplier Part Number 2: 9558306; Supplier 3: Newark; Supplier Part Number 3: 61K2029; Supplier 4: Mouser; Supplier Part Number 4: 863-1N5373BG; Packing: Bulk Box; RoHS: Pb-Free; Mounting Technology: Through Hole; ComponentLink1Description: Manufacturer URL; ComponentLink1URL: http://www.onsemi.com/; ComponentLink2Description: Datasheet; ComponentLink2URL: http://www.onsemi.cn/pub_link/Collateral/1N5333B-D.PDF; ComponentLink3Description: Package Specification; ComponentLink3URL: http://www.onsemi.cn/pub_link/Collateral/017AA.PDF
footprint ONSC-SURMETIC40-2-017AA-01 (AXIAL, 2-Leads, Diameter 3.49mm)
pins: 1 K, 2 A

## 1N5373BRLG
designator D?
5 W Zener Voltage Regulator, 2-Pin Surmetic(TM) 40, Pb-Free, Tape and Reel; Manufacturer: On Semiconductor; PartNumber: 1N5373BRLG; P Max (W): 5; VZ Typ (V): 68; DatasheetVersion: Rev. 14; PackageVersion: Rev. O, 09/2005; PackageReference: SURMETIC40-2-017AA-01; PackageDescription: 2-Pin, Axial Lead, Diameter 3.49 mm; Supplier 1: Digi-Key; Supplier Part Number 1: 1N5373BRLGOSTR-ND; Supplier 2: Digi-Key; Supplier Part Number 2: 1N5373BRLGOSCT-ND; Supplier 3: Newark; Supplier Part Number 3: 61K2030; Supplier 4: Mouser; Supplier Part Number 4: 863-1N5373BRLG; Packing: Tape and Reel; RoHS: Pb-Free; Mounting Technology: Through Hole; ComponentLink1Description: Manufacturer URL; ComponentLink1URL: http://www.onsemi.com/; ComponentLink2Description: Datasheet; ComponentLink2URL: http://www.onsemi.cn/pub_link/Collateral/1N5333B-D.PDF; ComponentLink3Description: Package Specification; ComponentLink3URL: http://www.onsemi.cn/pub_link/Collateral/017AA.PDF
footprint ONSC-SURMETIC40-2-017AA-01 (AXIAL, 2-Leads, Diameter 3.49mm)
pins: 1 K, 2 A

## 1N5374BG
designator D?
5 W Zener Voltage Regulator, 2-Pin Surmetic(TM) 40, Pb-Free, Bulk Box; Manufacturer: On Semiconductor; PartNumber: 1N5374BG; P Max (W): 5; VZ Typ (V): 75; DatasheetVersion: Rev. 14; PackageVersion: Rev. O, 09/2005; PackageReference: SURMETIC40-2-017AA-01; PackageDescription: 2-Pin, Axial Lead, Diameter 3.49 mm; Supplier 1: Digi-Key; Supplier Part Number 1: 1N5374BGOS-ND; Supplier 2: Farnell; Supplier Part Number 2: 9558314; Supplier 3: Newark; Supplier Part Number 3: 61K2031; Supplier 4: Mouser; Supplier Part Number 4: 863-1N5374BG; Packing: Bulk Box; RoHS: Pb-Free; Mounting Technology: Through Hole; ComponentLink1Description: Manufacturer URL; ComponentLink1URL: http://www.onsemi.com/; ComponentLink2Description: Datasheet; ComponentLink2URL: http://www.onsemi.cn/pub_link/Collateral/1N5333B-D.PDF; ComponentLink3Description: Package Specification; ComponentLink3URL: http://www.onsemi.cn/pub_link/Collateral/017AA.PDF
footprint ONSC-SURMETIC40-2-017AA-01 (AXIAL, 2-Leads, Diameter 3.49mm)
pins: 1 K, 2 A

## 1N5374BRLG
designator D?
5 W Zener Voltage Regulator, 2-Pin Surmetic(TM) 40, Pb-Free, Tape and Reel; Manufacturer: On Semiconductor; PartNumber: 1N5374BRLG; P Max (W): 5; VZ Typ (V): 75; DatasheetVersion: Rev. 14; PackageVersion: Rev. O, 09/2005; PackageReference: SURMETIC40-2-017AA-01; PackageDescription: 2-Pin, Axial Lead, Diameter 3.49 mm; Supplier 1: Digi-Key; Supplier Part Number 1: 1N5374BRLG-ND; Supplier 2: Mouser; Supplier Part Number 2: 863-1N5374BRLG; Packing: Tape and Reel; RoHS: Pb-Free; Mounting Technology: Through Hole; ComponentLink1Description: Manufacturer URL; ComponentLink1URL: http://www.onsemi.com/; ComponentLink2Description: Datasheet; ComponentLink2URL: http://www.onsemi.cn/pub_link/Collateral/1N5333B-D.PDF; ComponentLink3Description: Package Specification; ComponentLink3URL: http://www.onsemi.cn/pub_link/Collateral/017AA.PDF
footprint ONSC-SURMETIC40-2-017AA-01 (AXIAL, 2-Leads, Diameter 3.49mm)
pins: 1 K, 2 A

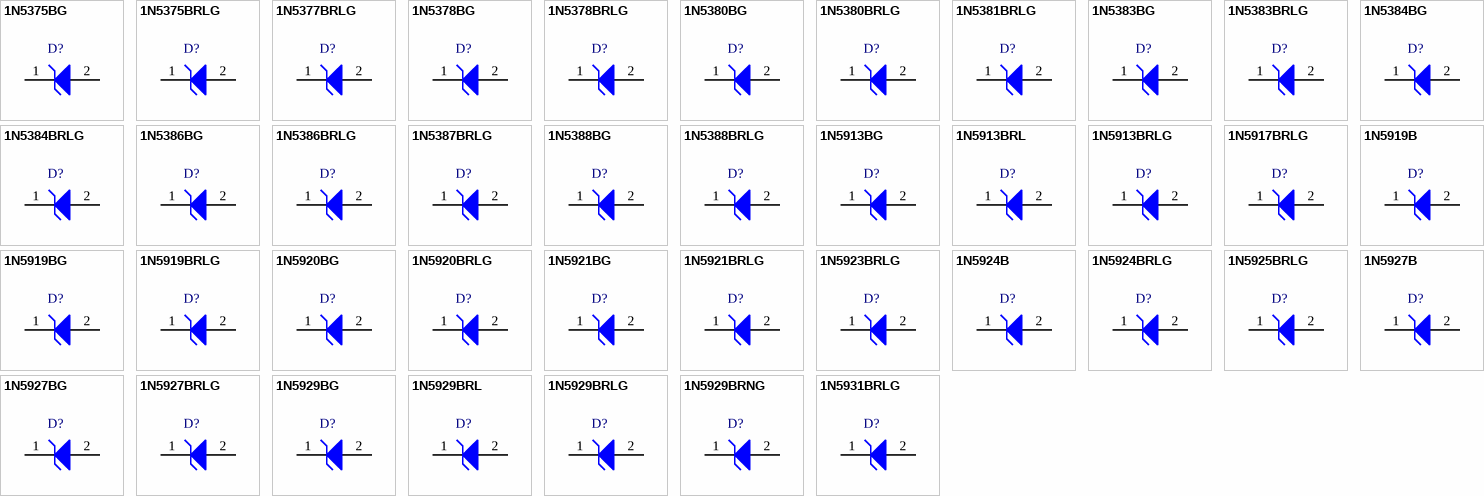
[diagram p2: symbols 1N5375BG to 1N5931BRLG]

## 1N5375BG
designator D?
5 W Zener Voltage Regulator, 2-Pin Surmetic(TM) 40, Pb-Free, Bulk Box; Manufacturer: On Semiconductor; PartNumber: 1N5375BG; P Max (W): 5; VZ Typ (V): 82; DatasheetVersion: Rev. 14; PackageVersion: Rev. O, 09/2005; PackageReference: SURMETIC40-2-017AA-01; PackageDescription: 2-Pin, Axial Lead, Diameter 3.49 mm; Supplier 1: Digi-Key; Supplier Part Number 1: 1N5375BGOS-ND; Supplier 2: Farnell; Supplier Part Number 2: 9558322; Supplier 3: Newark; Supplier Part Number 3: 61K2032; Supplier 4: Mouser; Supplier Part Number 4: 863-1N5375BG; Packing: Bulk Box; RoHS: Pb-Free; Mounting Technology: Through Hole; ComponentLink1Description: Manufacturer URL; ComponentLink1URL: http://www.onsemi.com/; ComponentLink2Description: Datasheet; ComponentLink2URL: http://www.onsemi.cn/pub_link/Collateral/1N5333B-D.PDF; ComponentLink3Description: Package Specification; ComponentLink3URL: http://www.onsemi.cn/pub_link/Collateral/017AA.PDF
footprint ONSC-SURMETIC40-2-017AA-01 (AXIAL, 2-Leads, Diameter 3.49mm)
pins: 1 K, 2 A

## 1N5375BRLG
designator D?
5 W Zener Voltage Regulator, 2-Pin Surmetic(TM) 40, Pb-Free, Tape and Reel; Manufacturer: On Semiconductor; PartNumber: 1N5375BRLG; P Max (W): 5; VZ Typ (V): 82; DatasheetVersion: Rev. 14; PackageVersion: Rev. O, 09/2005; PackageReference: SURMETIC40-2-017AA-01; PackageDescription: 2-Pin, Axial Lead, Diameter 3.49 mm; Supplier 1: Digi-Key; Supplier Part Number 1: 1N5375BRLG-ND; Supplier 2: Newark; Supplier Part Number 2: 61K2033; Supplier 3: Mouser; Supplier Part Number 3: 863-1N5375BRLG; Packing: Tape and Reel; RoHS: Pb-Free; Mounting Technology: Through Hole; ComponentLink1Description: Manufacturer URL; ComponentLink1URL: http://www.onsemi.com/; ComponentLink2Description: Datasheet; ComponentLink2URL: http://www.onsemi.cn/pub_link/Collateral/1N5333B-D.PDF; ComponentLink3Description: Package Specification; ComponentLink3URL: http://www.onsemi.cn/pub_link/Collateral/017AA.PDF
footprint ONSC-SURMETIC40-2-017AA-01 (AXIAL, 2-Leads, Diameter 3.49mm)
pins: 1 K, 2 A

## 1N5377BRLG
designator D?
5 W Zener Voltage Regulator, 2-Pin Surmetic(TM) 40, Pb-Free, Tape and Reel; Manufacturer: On Semiconductor; PartNumber: 1N5377BRLG; P Max (W): 5; VZ Typ (V): 91; DatasheetVersion: Rev. 14; PackageVersion: Rev. O, 09/2005; PackageReference: SURMETIC40-2-017AA-01; PackageDescription: 2-Pin, Axial Lead, Diameter 3.49 mm; Supplier 1: Digi-Key; Supplier Part Number 1: 1N5377BRLGOSTR-ND; Supplier 2: Digi-Key; Supplier Part Number 2: 1N5377BRLGOSCT-ND; Supplier 3: Newark; Supplier Part Number 3: 61K2035; Supplier 4: Mouser; Supplier Part Number 4: 863-1N5377BRLG; Packing: Tape and Reel; RoHS: Pb-Free; Mounting Technology: Through Hole; ComponentLink1Description: Manufacturer URL; ComponentLink1URL: http://www.onsemi.com/; ComponentLink2Description: Datasheet; ComponentLink2URL: http://www.onsemi.cn/pub_link/Collateral/1N5333B-D.PDF; ComponentLink3Description: Package Specification; ComponentLink3URL: http://www.onsemi.cn/pub_link/Collateral/017AA.PDF
footprint ONSC-SURMETIC40-2-017AA-01 (AXIAL, 2-Leads, Diameter 3.49mm)
pins: 1 K, 2 A

## 1N5378BG
designator D?
5 W Zener Voltage Regulator, 2-Pin Surmetic(TM) 40, Pb-Free, Bulk Box; Manufacturer: On Semiconductor; PartNumber: 1N5378BG; P Max (W): 5; VZ Typ (V): 100; DatasheetVersion: Rev. 14; PackageVersion: Rev. O, 09/2005; PackageReference: SURMETIC40-2-017AA-01; PackageDescription: 2-Pin, Axial Lead, Diameter 3.49 mm; Supplier 1: Digi-Key; Supplier Part Number 1: 1N5378BGOS-ND; Supplier 2: Farnell; Supplier Part Number 2: 9558349; Supplier 3: Newark; Supplier Part Number 3: 42K2916; Supplier 4: Mouser; Supplier Part Number 4: 863-1N5378BG; Packing: Bulk Box; RoHS: Pb-Free; Mounting Technology: Through Hole; ComponentLink1Description: Manufacturer URL; ComponentLink1URL: http://www.onsemi.com/; ComponentLink2Description: Datasheet; ComponentLink2URL: http://www.onsemi.cn/pub_link/Collateral/1N5333B-D.PDF; ComponentLink3Description: Package Specification; ComponentLink3URL: http://www.onsemi.cn/pub_link/Collateral/017AA.PDF
footprint ONSC-SURMETIC40-2-017AA-01 (AXIAL, 2-Leads, Diameter 3.49mm)
pins: 1 K, 2 A

## 1N5378BRLG
designator D?
5 W Zener Voltage Regulator, 2-Pin Surmetic(TM) 40, Pb-Free, Tape and Reel; Manufacturer: On Semiconductor; PartNumber: 1N5378BRLG; P Max (W): 5; VZ Typ (V): 100; DatasheetVersion: Rev. 14; PackageVersion: Rev. O, 09/2005; PackageReference: SURMETIC40-2-017AA-01; PackageDescription: 2-Pin, Axial Lead, Diameter 3.49 mm; Supplier 1: Digi-Key; Supplier Part Number 1: 1N5378BRLGOSTR-ND; Supplier 2: Digi-Key; Supplier Part Number 2: 1N5378BRLGOSCT-ND; Supplier 3: Farnell; Supplier Part Number 3: 2369374; Supplier 4: Newark; Supplier Part Number 4: 42K2917; Supplier 5: Newark; Supplier Part Number 5: 10N9639; Supplier 6: Mouser; Supplier Part Number 6: 863-1N5378BRLG; Packing: Tape and Reel; RoHS: Pb-Free; Mounting Technology: Through Hole; ComponentLink1Description: Manufacturer URL; ComponentLink1URL: http://www.onsemi.com/; ComponentLink2Description: Datasheet; ComponentLink2URL: http://www.onsemi.cn/pub_link/Collateral/1N5333B-D.PDF; ComponentLink3Description: Package Specification; ComponentLink3URL: http://www.onsemi.cn/pub_link/Collateral/017AA.PDF
footprint ONSC-SURMETIC40-2-017AA-01 (AXIAL, 2-Leads, Diameter 3.49mm)
pins: 1 K, 2 A

## 1N5380BG
designator D?
5 W Zener Voltage Regulator, 2-Pin Surmetic(TM) 40, Pb-Free, Bulk Box; Manufacturer: On Semiconductor; PartNumber: 1N5380BG; P Max (W): 5; VZ Typ (V): 120; DatasheetVersion: Rev. 14; PackageVersion: Rev. O, 09/2005; PackageReference: SURMETIC40-2-017AA-01; PackageDescription: 2-Pin, Axial Lead, Diameter 3.49 mm; Supplier 1: Digi-Key; Supplier Part Number 1: 1N5380BGOS-ND; Supplier 2: Farnell; Supplier Part Number 2: 9558357; Supplier 3: Newark; Supplier Part Number 3: 42K2918; Supplier 4: Mouser; Supplier Part Number 4: 863-1N5380BG; Packing: Bulk Box; RoHS: Pb-Free; Mounting Technology: Through Hole; ComponentLink1Description: Manufacturer URL; ComponentLink1URL: http://www.onsemi.com/; ComponentLink2Description: Datasheet; ComponentLink2URL: http://www.onsemi.cn/pub_link/Collateral/1N5333B-D.PDF; ComponentLink3Description: Package Specification; ComponentLink3URL: http://www.onsemi.cn/pub_link/Collateral/017AA.PDF
footprint ONSC-SURMETIC40-2-017AA-01 (AXIAL, 2-Leads, Diameter 3.49mm)
pins: 1 K, 2 A

## 1N5380BRLG
designator D?
5 W Zener Voltage Regulator, 2-Pin Surmetic(TM) 40, Pb-Free, Tape and Reel; Manufacturer: On Semiconductor; PartNumber: 1N5380BRLG; P Max (W): 5; VZ Typ (V): 120; DatasheetVersion: Rev. 14; PackageVersion: Rev. O, 09/2005; PackageReference: SURMETIC40-2-017AA-01; PackageDescription: 2-Pin, Axial Lead, Diameter 3.49 mm; Supplier 1: Digi-Key; Supplier Part Number 1: 1N5380BRLG-ND; Supplier 2: Newark; Supplier Part Number 2: 42K2919; Supplier 3: Mouser; Supplier Part Number 3: 863-1N5380BRLG; Packing: Tape and Reel; RoHS: Pb-Free; Mounting Technology: Through Hole; ComponentLink1Description: Manufacturer URL; ComponentLink1URL: http://www.onsemi.com/; ComponentLink2Description: Datasheet; ComponentLink2URL: http://www.onsemi.cn/pub_link/Collateral/1N5333B-D.PDF; ComponentLink3Description: Package Specification; ComponentLink3URL: http://www.onsemi.cn/pub_link/Collateral/017AA.PDF
footprint ONSC-SURMETIC40-2-017AA-01 (AXIAL, 2-Leads, Diameter 3.49mm)
pins: 1 K, 2 A

## 1N5381BRLG
designator D?
5 W Zener Voltage Regulator, 2-Pin Surmetic(TM) 40, Pb-Free, Tape and Reel; Manufacturer: On Semiconductor; PartNumber: 1N5381BRLG; P Max (W): 5; VZ Typ (V): 130; DatasheetVersion: Rev. 14; PackageVersion: Rev. O, 09/2005; PackageReference: SURMETIC40-2-017AA-01; PackageDescription: 2-Pin, Axial Lead, Diameter 3.49 mm; Supplier 1: Digi-Key; Supplier Part Number 1: 1N5381BRLGOSTR-ND; Supplier 2: Digi-Key; Supplier Part Number 2: 1N5381BRLGOSCT-ND; Supplier 3: Newark; Supplier Part Number 3: 42K2921; Supplier 4: Mouser; Supplier Part Number 4: 863-1N5381BRLG; Packing: Tape and Reel; RoHS: Pb-Free; Mounting Technology: Through Hole; ComponentLink1Description: Manufacturer URL; ComponentLink1URL: http://www.onsemi.com/; ComponentLink2Description: Datasheet; ComponentLink2URL: http://www.onsemi.cn/pub_link/Collateral/1N5333B-D.PDF; ComponentLink3Description: Package Specification; ComponentLink3URL: http://www.onsemi.cn/pub_link/Collateral/017AA.PDF
footprint ONSC-SURMETIC40-2-017AA-01 (AXIAL, 2-Leads, Diameter 3.49mm)
pins: 1 K, 2 A

## 1N5383BG
designator D?
5 W Zener Voltage Regulator, 2-Pin Surmetic(TM) 40, Pb-Free, Bulk Box; Manufacturer: On Semiconductor; PartNumber: 1N5383BG; P Max (W): 5; VZ Typ (V): 150; DatasheetVersion: Rev. 14; PackageVersion: Rev. O, 09/2005; PackageReference: SURMETIC40-2-017AA-01; PackageDescription: 2-Pin, Axial Lead, Diameter 3.49 mm; Supplier 1: Digi-Key; Supplier Part Number 1: 1N5383BGOS-ND; Supplier 2: Farnell; Supplier Part Number 2: 9558373; Supplier 3: Newark; Supplier Part Number 3: 42K2922; Supplier 4: Mouser; Supplier Part Number 4: 863-1N5383BG; Packing: Bulk Box; RoHS: Pb-Free; Mounting Technology: Through Hole; ComponentLink1Description: Manufacturer URL; ComponentLink1URL: http://www.onsemi.com/; ComponentLink2Description: Datasheet; ComponentLink2URL: http://www.onsemi.cn/pub_link/Collateral/1N5333B-D.PDF; ComponentLink3Description: Package Specification; ComponentLink3URL: http://www.onsemi.cn/pub_link/Collateral/017AA.PDF
footprint ONSC-SURMETIC40-2-017AA-01 (AXIAL, 2-Leads, Diameter 3.49mm)
pins: 1 K, 2 A

## 1N5383BRLG
designator D?
5 W Zener Voltage Regulator, 2-Pin Surmetic(TM) 40, Pb-Free, Tape and Reel; Manufacturer: On Semiconductor; PartNumber: 1N5383BRLG; P Max (W): 5; VZ Typ (V): 150; DatasheetVersion: Rev. 14; PackageVersion: Rev. O, 09/2005; PackageReference: SURMETIC40-2-017AA-01; PackageDescription: 2-Pin, Axial Lead, Diameter 3.49 mm; Supplier 1: Digi-Key; Supplier Part Number 1: 1N5383BRLGOSTR-ND; Supplier 2: Digi-Key; Supplier Part Number 2: 1N5383BRLGOSCT-ND; Supplier 3: Newark; Supplier Part Number 3: 10N9640; Supplier 4: Newark; Supplier Part Number 4: 42K2923; Supplier 5: Mouser; Supplier Part Number 5: 863-1N5383BRLG; Packing: Tape and Reel; RoHS: Pb-Free; Mounting Technology: Through Hole; ComponentLink1Description: Manufacturer URL; ComponentLink1URL: http://www.onsemi.com/; ComponentLink2Description: Datasheet; ComponentLink2URL: http://www.onsemi.cn/pub_link/Collateral/1N5333B-D.PDF; ComponentLink3Description: Package Specification; ComponentLink3URL: http://www.onsemi.cn/pub_link/Collateral/017AA.PDF
footprint ONSC-SURMETIC40-2-017AA-01 (AXIAL, 2-Leads, Diameter 3.49mm)
pins: 1 K, 2 A

## 1N5384BG
designator D?
5 W Zener Voltage Regulator, 2-Pin Surmetic(TM) 40, Pb-Free, Bulk Box; Manufacturer: On Semiconductor; PartNumber: 1N5384BG; P Max (W): 5; VZ Typ (V): 160; DatasheetVersion: Rev. 14; PackageVersion: Rev. O, 09/2005; PackageReference: SURMETIC40-2-017AA-01; PackageDescription: 2-Pin, Axial Lead, Diameter 3.49 mm; Supplier 1: Digi-Key; Supplier Part Number 1: 1N5384BGOS-ND; Supplier 2: Farnell; Supplier Part Number 2: 9558381; Supplier 3: Newark; Supplier Part Number 3: 42K2924; Supplier 4: Mouser; Supplier Part Number 4: 863-1N5384BG; Packing: Bulk Box; RoHS: Pb-Free; Mounting Technology: Through Hole; ComponentLink1Description: Manufacturer URL; ComponentLink1URL: http://www.onsemi.com/; ComponentLink2Description: Datasheet; ComponentLink2URL: http://www.onsemi.cn/pub_link/Collateral/1N5333B-D.PDF; ComponentLink3Description: Package Specification; ComponentLink3URL: http://www.onsemi.cn/pub_link/Collateral/017AA.PDF
footprint ONSC-SURMETIC40-2-017AA-01 (AXIAL, 2-Leads, Diameter 3.49mm)
pins: 1 K, 2 A